# Altium schematic symbol library 1-2199298-3.SchLib: 1 symbol
Pins are listed as number, name and electrical type; pins without a type are passive.

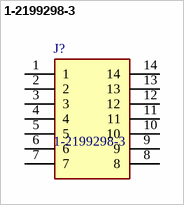
[diagram p0: symbol 1-2199298-3]

## 1-2199298-3
designator J?
2.54mm low profile THT DIL socket,14 way TE Connectivity 1-2199298 2.54mm Pitch Straight 14 Way, Through Hole Standard Pin Ladder IC Dip Socket, 1A; Geometry.Height: 5.1mm; Mouser Part Number: 571-1-2199298-3; Mouser Price/Stock: https://www.mouser.co.uk/ProductDetail/TE-Connectivity/1-2199298-3?qs=fK8dlpkaUMtBOtVI99wRlQ%3D%3D; Manufacturer_Name: TE Connectivity; Manufacturer_Part_Number: 1-2199298-3; Datasheet Link: https://componentsearchengine.com/Datasheets/2/1-2199298-3.pdf
footprint DIPS762W70P254L1778H510Q14N
pins: 1, 2, 3, 4, 5, 6, 7, 8, 9, 10, 11, 12, 13, 14